# Altium footprint library 2021-04-02_01-25-34.PcbLib: 1 footprints
Each footprint in its own frame and in the unit in brackets; x right, y up, seen from the top. Pads: shape width x height; smd on the part's side, far side on the other; paste and mask are expansions set on the pad; w line width, h text height; cw(c..) or ccw(c..) is an arc to the next point about the centre after c.
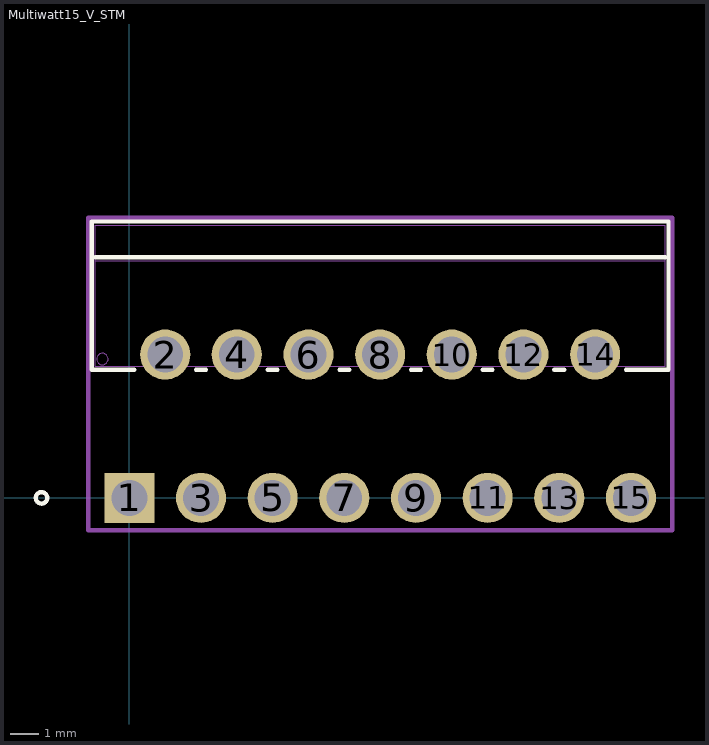
[diagram p0: the footprint, top view; thin cyan lines are the x and y axes]

## Multiwatt15_V_STM [mil]
pads (15):
  rect 70x70 hole 50 mask+0: 1(0,0)
  round 70 hole 50 mask+0: 2(50,200) 3(100,0) 4(150,200) 5(200,0) 6(250,200) 7(300,0) 8(350,200) 9(400,0) 10(450,200) 11(500,0) 12(550,200) 13(600,0) 14(650,200) 15(700,0)
Top Overlay:
  circle w6: c-122.5,0 r8
  lines w6: -47.5,335.71 747.5,335.71 ; 6.87,178.71 -52.5,178.71 -52.5,385.71 752.5,385.71 752.5,178.71 693.13,178.71 ; 93.13,178.71 106.87,178.71 ; 193.13,178.71 206.87,178.71 ; 293.13,178.71 306.87,178.71 ; 393.13,178.71 406.87,178.71 ; 493.13,178.71 506.87,178.71 ; 593.13,178.71 606.87,178.71
Mechanical 13:
  circle w0: c-37.5,193.71 r8
  lines w1: -47.5,330.71 747.5,330.71 ; -47.5,183.71 747.5,183.71 747.5,380.71 -47.5,380.71 -47.5,183.71
  text "TAB" at 331.25,343.21 h25
Mechanical 15:
  lines w6: -57.5,-45 -57.5,390.71 757.5,390.71 757.5,-45 -57.5,-45
3D body: height 10, standoff 0, extent 0,0 10,10
3D body "Multiwatt15_V_STM.step": height 977.01, standoff -77.99, extent -45,-12.85 750.04,382.85